# Altium schematic symbol library Diodes.SchLib: 6 symbols
Pins are listed as number, name and electrical type; pins without a type are passive.

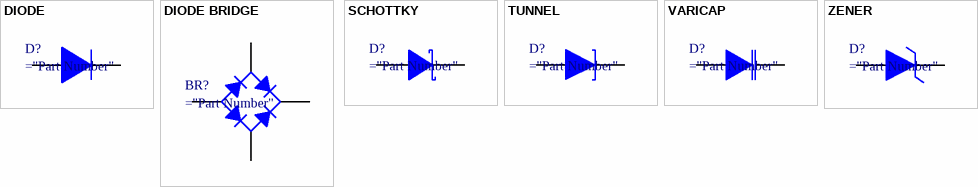
[diagram p0: symbols DIODE to ZENER]

## DIODE
designator D?
pins: 1, 2

## DIODE BRIDGE
designator BR?
pins: 1, 2, 3, 4

## SCHOTTKY
designator D?
pins: 1, 2

## TUNNEL
designator D?
pins: 1, 2

## VARICAP
designator D?
pins: 1, 2

## ZENER
designator D?
pins: 1, 2